# EAGLE library part STEWARTSS73100 (library Stewart_Connector_SS73100-046F)
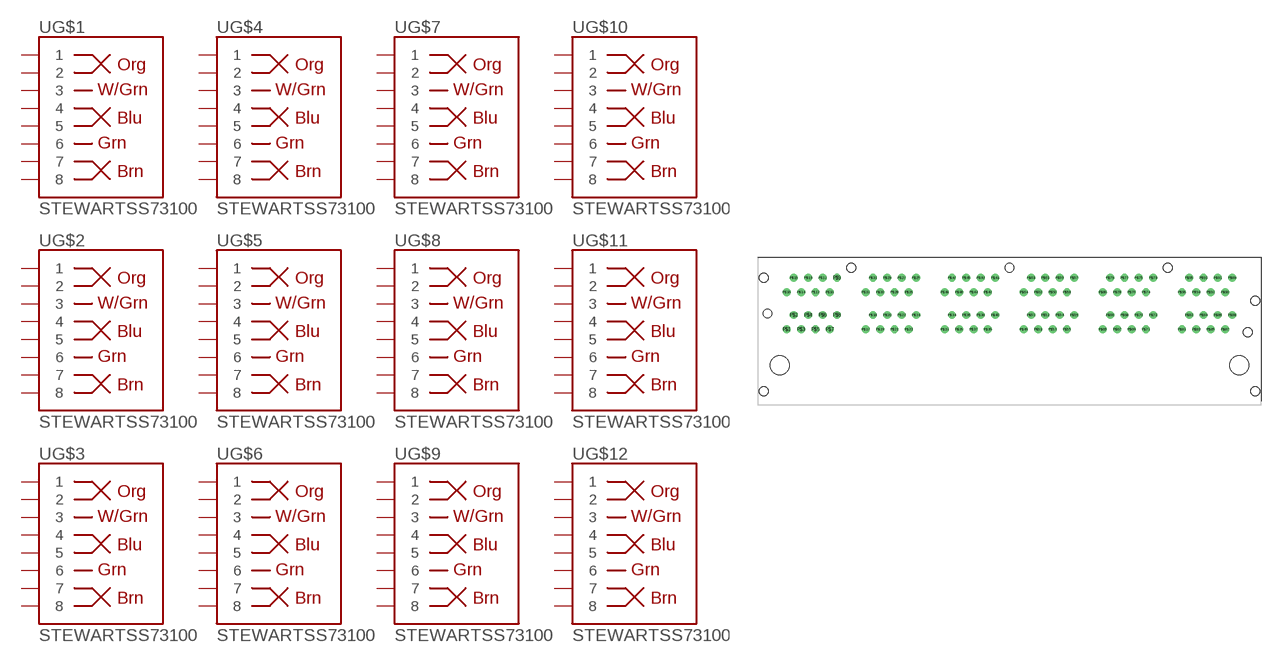
[diagram p0: symbol with the pads of STEWARTSS73100; footprint STEWARTSS73100]

Designator prefix -; gates G$1=RJ45-8 G$2=RJ45-8 G$3=RJ45-8 G$4=RJ45-8 G$5=RJ45-8 G$6=RJ45-8 G$7=RJ45-8 G$8=RJ45-8 G$9=RJ45-8 G$10=RJ45-8 G$11=RJ45-8 G$12=RJ45-8

## STEWARTSS73100  [STEWARTSS73100]
P$1  G$1:1
P$2  G$1:2
P$3  G$1:3
P$4  G$1:4
P$5  G$1:5
P$6  G$1:6
P$7  G$1:7
P$8  G$1:8
P$9  G$2:8
P$10  G$2:7
P$11  G$2:6
P$12  G$2:5
P$13  G$2:4
P$14  G$2:3
P$15  G$2:2
P$16  G$2:1
P$17  G$3:1
P$18  G$3:2
P$19  G$3:3
P$20  G$3:4
P$21  G$3:5
P$22  G$3:6
P$23  G$3:7
P$24  G$3:8
P$25  G$4:8
P$26  G$4:7
P$27  G$4:6
P$28  G$4:5
P$29  G$4:4
P$30  G$4:3
P$31  G$4:2
P$32  G$4:1
P$33  G$5:1
P$34  G$5:2
P$35  G$5:3
P$36  G$5:4
P$37  G$5:5
P$38  G$5:6
P$39  G$5:7
P$40  G$5:8
P$41  G$6:8
P$42  G$6:7
P$43  G$6:6
P$44  G$6:5
P$45  G$6:4
P$46  G$6:3
P$47  G$6:2
P$48  G$6:1
P$49  G$7:1
P$50  G$7:2
P$51  G$7:3
P$52  G$7:4
P$53  G$7:5
P$54  G$7:6
P$55  G$7:7
P$56  G$7:8
P$57  G$8:8
P$58  G$8:7
P$59  G$8:6
P$60  G$8:5
P$61  G$8:4
P$62  G$8:3
P$63  G$8:2
P$64  G$8:1
P$65  G$9:1
P$66  G$9:2
P$67  G$9:3
P$68  G$9:4
P$69  G$9:5
P$70  G$9:6
P$71  G$9:7
P$72  G$9:8
P$73  G$10:8
P$74  G$10:7
P$75  G$10:6
P$76  G$10:5
P$77  G$10:4
P$78  G$10:3
P$79  G$10:2
P$80  G$10:1
P$81  G$11:1
P$82  G$11:2
P$83  G$11:3
P$84  G$11:4
P$85  G$11:5
P$86  G$11:6
P$87  G$11:7
P$88  G$11:8
P$89  G$12:8
P$90  G$12:7
P$91  G$12:6
P$92  G$12:5
P$93  G$12:4
P$94  G$12:3
P$95  G$12:2
P$96  G$12:1

## Footprint STEWARTSS73100 (pad centres in mm)
drill 0.889: P$1 1.27,0; P$2 2.54,2.54; P$3 3.81,0; P$4 5.08,2.54; P$5 6.35,0; P$6 7.62,2.54; P$7 8.89,0; P$8 10.16,2.54; P$9 10.16,9.119; P$10 8.89,6.579; P$11 7.62,9.119; P$12 6.35,6.579; P$13 5.08,9.119; P$14 3.81,6.579; P$15 2.54,9.119; P$16 1.27,6.579; P$17 15.24,0; P$18 16.51,2.54; P$19 17.78,0; P$20 19.05,2.54; P$21 20.32,0; P$22 21.59,2.54; P$23 22.86,0; P$24 24.13,2.54; P$25 24.13,9.119; P$26 22.86,6.579; P$27 21.59,9.119; P$28 20.32,6.579; P$29 19.05,9.119; P$30 17.78,6.579; P$31 16.51,9.119; P$32 15.24,6.579; P$33 29.21,0; P$34 30.48,2.54; P$35 31.75,0; P$36 33.02,2.54; P$37 34.29,0; P$38 35.56,2.54; P$39 36.83,0; P$40 38.1,2.54; P$41 38.1,9.119; P$42 36.83,6.579; P$43 35.56,9.119; P$44 34.29,6.579; P$45 33.02,9.119; P$46 31.75,6.579; P$47 30.48,9.119; P$48 29.21,6.579; P$49 43.18,0; P$50 44.45,2.54; P$51 45.72,0; P$52 46.99,2.54; P$53 48.26,0; P$54 49.53,2.54; P$55 50.8,0; P$56 52.07,2.54; P$57 52.07,9.119; P$58 50.8,6.579; P$59 49.53,9.119; P$60 48.26,6.579; P$61 46.99,9.119; P$62 45.72,6.579; P$63 44.45,9.119; P$64 43.18,6.579; P$65 57.15,0; P$66 58.42,2.54; P$67 59.69,0; P$68 60.96,2.54; P$69 62.23,0; P$70 63.5,2.54; P$71 64.77,0; P$72 66.04,2.54; P$73 66.04,9.119; P$74 64.77,6.579; P$75 63.5,9.119; P$76 62.23,6.579; P$77 60.96,9.119; P$78 59.69,6.579; P$79 58.42,9.119; P$80 57.15,6.579; P$81 71.12,0; P$82 72.39,2.54; P$83 73.66,0; P$84 74.93,2.54; P$85 76.2,0; P$86 77.47,2.54; P$87 78.74,0; P$88 80.01,2.54; P$89 80.01,9.119; P$90 78.74,6.579; P$91 77.47,9.119; P$92 76.2,6.579; P$93 74.93,9.119; P$94 73.66,6.579; P$95 72.39,9.119; P$96 71.12,6.579
hole 3.353 at 0,-6.35
hole 3.353 at 81.28,-6.35
hole 1.575 at -2.134,2.794
hole 1.575 at -2.794,9.119
hole 1.575 at -2.794,-10.922
hole 1.575 at 84.074,-10.922
hole 1.575 at 82.753,-0.483
hole 1.575 at 84.074,5.029
hole 1.575 at 12.7,10.922
hole 1.575 at 40.64,10.922
hole 1.575 at 68.58,10.922